# Altium schematic symbol library Lib_Prototype.SchLib: 2 symbols
Pins are listed as number, name and electrical type; pins without a type are passive.

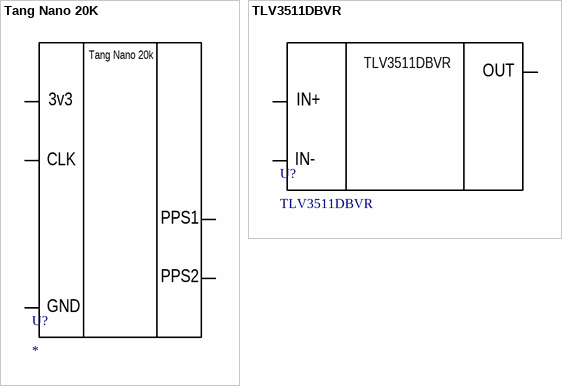
[diagram p0: symbols Tang Nano 20K to TLV3511DBVR]

## Tang Nano 20K
designator U?
pins: 1, 2, 3, 4, 5
text: Tang Nano 20k; 3v3; CLK; PPS1; PPS2; GND

## TLV3511DBVR
designator U?
pins: 1, 2, 4
text: OUT; IN+; IN-